# Altium footprint library Flow_Pump.PcbLib: 52 footprints (part 4 of 4)
Each footprint in its own frame and in the unit in brackets; x right, y up, seen from the top. Pads: shape width x height; smd on the part's side, far side on the other; paste and mask are expansions set on the pad; w line width, h text height; cw(c..) or ccw(c..) is an arc to the next point about the centre after c.
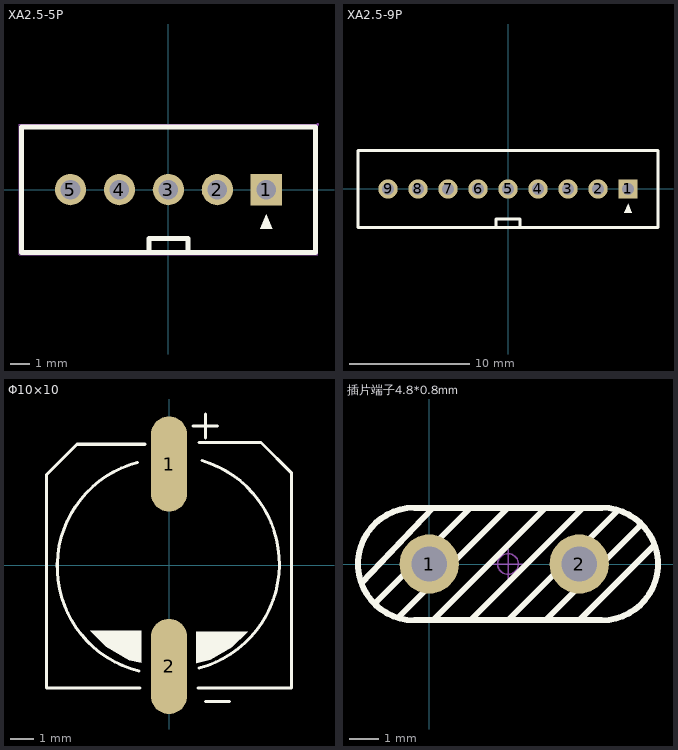
[diagram p3: the footprints below, top view; thin cyan lines are the x and y axes]

## XA2.5-5P [mm] "间距2.5mm"
pads (5):
  rect 1.6x1.6 hole 1: 1(5,0)
  round 1.6 hole 1: 2(2.5,0) 3(0,0) 4(-2.5,0) 5(-5,0)
Top Overlay:
  region: 4.7,-2 5.3,-2 5,-1.25
  lines w0.254: -7.5,-3.2 7.5,-3.2 7.5,3.2 -7.5,3.2 -7.5,-3.2 ; -1,-3.2 1,-3.2 1,-2.5 -1,-2.5 -1,-3.2
Mechanical 15:
  region: 7.687,3.327 7.687,3.352 7.652,3.387 7.602,3.387 7.567,3.352 7.567,3.327 7.567,3.302 7.602,3.267 7.652,3.267 7.687,3.302
  region: 5.4,0 5.4,0.08 5.339,0.227 5.227,0.339 5.08,0.4 4.92,0.4 4.773,0.339 4.661,0.227 4.6,0.08 4.6,0 4.6,-0.08 4.661,-0.227 4.773,-0.339 4.92,-0.4 5.08,-0.4 5.227,-0.339 5.339,-0.227 5.4,-0.08
  region: 2.9,0 2.9,0.08 2.839,0.227 2.727,0.339 2.58,0.4 2.421,0.4 2.274,0.339 2.161,0.227 2.1,0.08 2.1,0 2.1,-0.08 2.161,-0.227 2.274,-0.339 2.421,-0.4 2.58,-0.4 2.727,-0.339 2.839,-0.227 2.9,-0.08
  region: 0.4,0 0.4,0.08 0.339,0.227 0.227,0.339 0.08,0.4 -0.08,0.4 -0.227,0.339 -0.339,0.227 -0.4,0.08 -0.4,0 -0.4,-0.08 -0.339,-0.227 -0.227,-0.339 -0.08,-0.4 0.08,-0.4 0.227,-0.339 0.339,-0.227 0.4,-0.08
  region: -2.1,0 -2.1,0.08 -2.161,0.227 -2.274,0.339 -2.421,0.4 -2.58,0.4 -2.727,0.339 -2.839,0.227 -2.9,0.08 -2.9,0 -2.9,-0.08 -2.839,-0.227 -2.727,-0.339 -2.58,-0.4 -2.421,-0.4 -2.274,-0.339 -2.161,-0.227 -2.1,-0.08
  region: -4.6,0 -4.6,0.08 -4.661,0.227 -4.773,0.339 -4.92,0.4 -5.08,0.4 -5.227,0.339 -5.339,0.227 -5.4,0.08 -5.4,0 -5.4,-0.08 -5.339,-0.227 -5.227,-0.339 -5.08,-0.4 -4.92,-0.4 -4.773,-0.339 -4.661,-0.227 -4.6,-0.08
  lines w0.051: -7.627,-3.327 7.627,-3.327 7.627,3.327 -7.627,3.327 -7.627,-3.327

## XA2.5-9P [mm] "间距2.5mm"
pads (9):
  rect 1.6x1.6 hole 1: 1(10,0)
  round 1.6 hole 1: 2(7.5,0) 3(5,0) 4(2.5,0) 5(0,0) 6(-2.5,0) 7(-5,0) 8(-7.5,0) 9(-10,0)
Top Overlay:
  region: 9.7,-2 10.3,-2 10,-1.25
  lines w0.254: -1,-3.2 -1,-2.5 1,-2.5 1,-3.2 ; 4,-3.2 6,-3.2 ; -12.5,-3.2 -12.5,3.2 12.5,3.2 12.5,-3.2 -12.5,-3.2

## Φ10×10 [mm]
pads (2):
  oval 1.524x4 smd: 1(0,4.25) 2(0,-4.25)
Top Overlay:
  region: 1.143,-2.794 1.143,-4.115 2.464,-2.794
  region: 1.143,-4.115 2.464,-2.794 3.302,-2.794
  region: 3.302,-2.794 2.642,-3.454 2.222,-3.454
  region: 2.642,-3.454 2.235,-3.454 1.727,-3.962
  region: 1.727,-3.962 2.235,-3.454 1.803,-3.454 1.143,-4.115
  region: -1.156,-2.756 -1.156,-4.102 -2.502,-2.756
  region: -1.156,-4.102 -2.502,-2.756 -3.315,-2.756
  region: -2.235,-3.429 -2.642,-3.429 -3.315,-2.756
  region: -2.642,-3.429 -2.235,-3.429 -1.664,-4
  region: -1.664,-4 -2.235,-3.429 -1.829,-3.429 -1.156,-4.102
  lines w0.127: -5.15,3.81 -5.15,-5.15 -1.213,-5.15 ; -5.137,3.81 -3.867,5.08 -1.016,5.08 ; -1.33,4.314 ccw(c-0.173,-0.058) -1.27,-4.445 ; 1.016,5.842 2.032,5.842 ; 1.213,-5.15 5.15,-5.15 5.15,3.867 3.867,5.15 1.27,5.15 ; 1.27,-4.318 ccw(c0.113,0.054) 1.389,4.392 ; 1.524,-5.715 2.54,-5.715 ; 1.524,5.334 1.524,6.35

## 插片端子4.8*0.8mm [mm] "4.8*0.8mm"
pads (2):
  round 2 hole 1.2: 1(0,0) 2(5.08,0)
Top Overlay:
  lines w0.203: -2.286,-0.635 0.127,1.905 ; -1.778,-1.27 1.397,1.905 ; -1.016,-1.778 2.667,1.905 ; 0.127,-1.905 3.937,1.905 ; 1.397,-1.905 5.207,1.905 ; 2.667,-1.905 6.35,1.778 ; 3.937,-1.905 7.112,1.27 ; 5.08,-1.905 7.62,0.635 ; -0.508,-1.905 cw(c-0.508,0) -0.508,1.905 5.842,1.905 cw(c5.842,0) 5.842,-1.905 -0.508,-1.905
Mechanical 15:
  circle w0.05: c2.667,0 r0.35
  lines w0.05: 2.167,0 3.167,0 ; 2.667,-0.5 2.667,0.5
3D body "DJ610-4.8x0.5x14.STEP": height 8.55, standoff -3.45, extent -0.585,-0.25 5.665,0.25